# Altium footprint library LCC-16-3x3mm.PcbLib: 1 footprints
Each footprint in its own frame and in the unit in brackets; x right, y up, seen from the top. Pads: shape width x height; smd on the part's side, far side on the other; paste and mask are expansions set on the pad; w line width, h text height; cw(c..) or ccw(c..) is an arc to the next point about the centre after c.
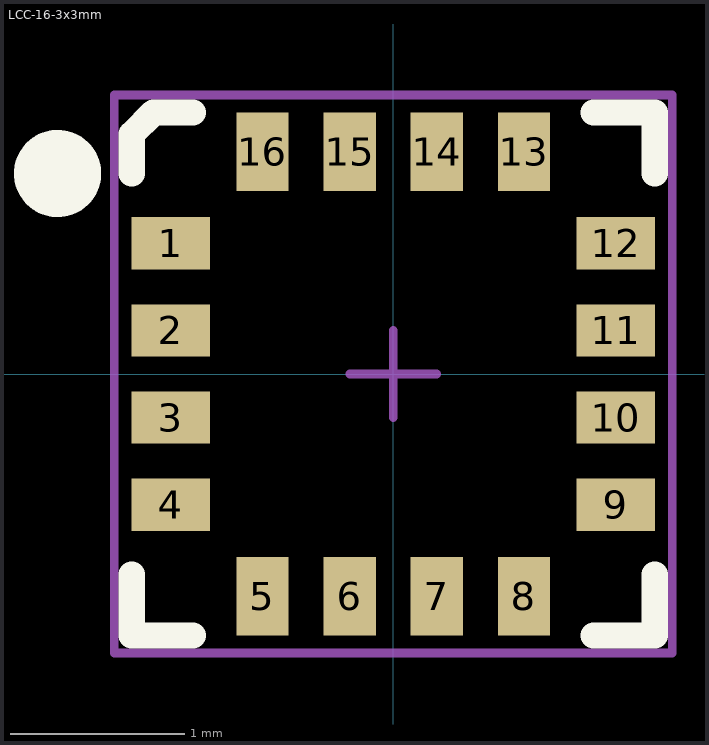
[diagram p0: the footprint, top view; thin cyan lines are the x and y axes]

## LCC-16-3x3mm [mm]
pads (16):
  rect 0.45x0.3 smd mask+0.051: 1(-1.275,0.75) 2(-1.275,0.25) 3(-1.275,-0.25) 4(-1.275,-0.75) 9(1.275,-0.75) 10(1.275,-0.25) 11(1.275,0.25) 12(1.275,0.75)
  rect 0.3x0.45 smd mask+0.051: 5(-0.75,-1.275) 6(-0.25,-1.275) 7(0.25,-1.275) 8(0.75,-1.275) 13(0.75,1.275) 14(0.25,1.275) 15(-0.25,1.275) 16(-0.75,1.275)
Top Overlay:
  circle w0.25: c-1.925,1.15 r0.125
  lines w0.15: -1.5,-1.15 -1.5,-1.5 -1.15,-1.5 ; -1.5,1.15 -1.5,1.375 -1.375,1.5 -1.15,1.5 ; 1.15,-1.5 1.5,-1.5 1.5,-1.15 ; 1.15,1.5 1.5,1.5 1.5,1.15
Mechanical 15 (Mech15):
  lines w0.05: -0.25,0 0.25,0 ; 0,-0.25 0,0.25 ; -1.6,-1.6 -1.6,1.6 1.6,1.6 1.6,-1.6 -1.6,-1.6
3D body: height 12.5, standoff 1.1, extent -1.325,0.75 -1.325,0.75
3D body: height 1.1, standoff 0, extent -1.5,-1.5 1.5,1.5